# Altium integrated library ECT-CV2018D.IntLib: 35 symbols
Pins are listed as number, name and electrical type; pins without a type are passive.

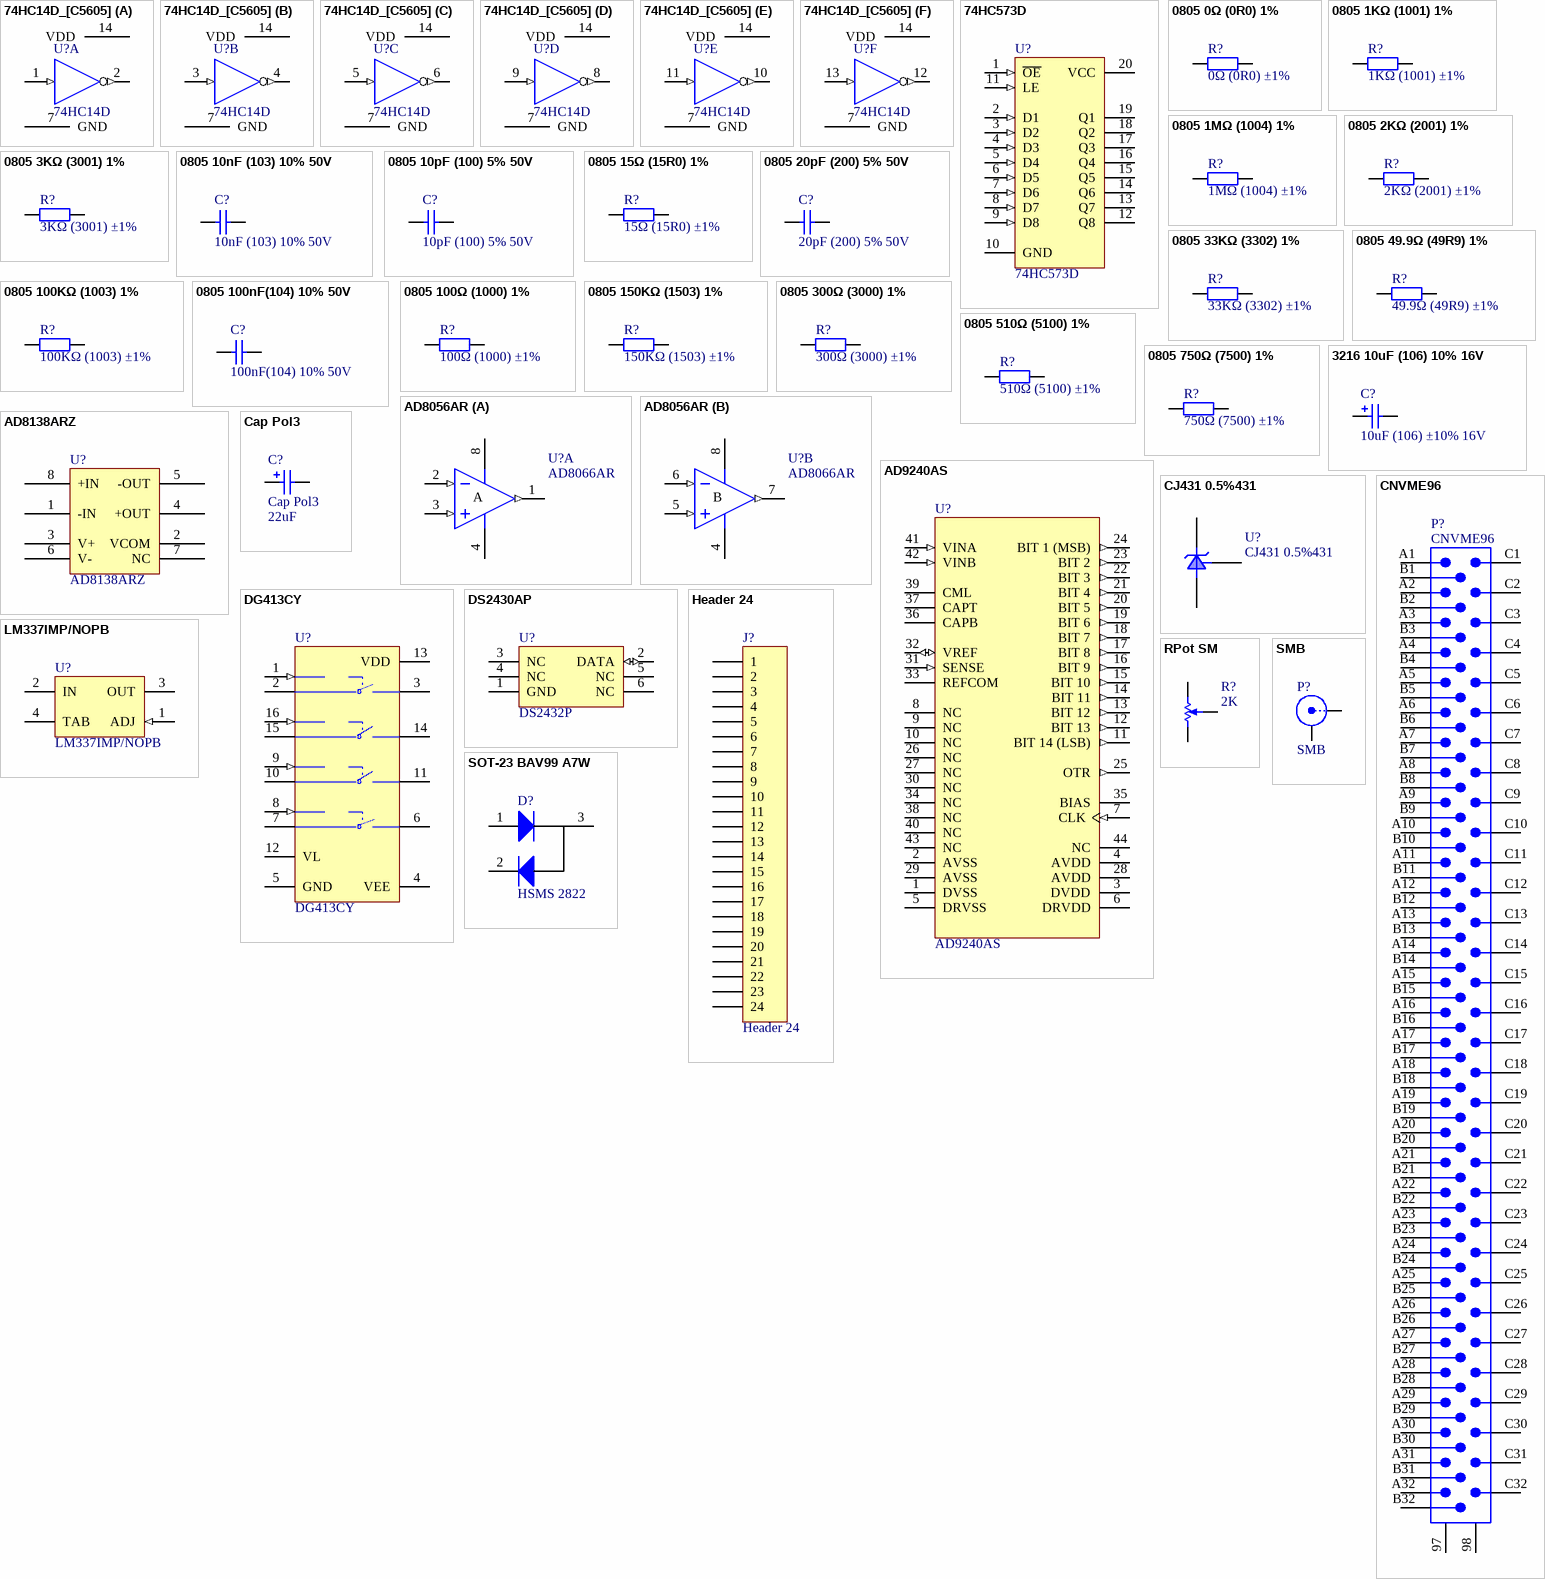
[diagram p0: symbols 74HC14D_[C5605] to SOT-23 BAV99 A7W]

## 74HC14D_[C5605]
designator U?, comment 74HC14D
74系列逻辑芯片; ComponentLink1Description: 供应商链接; ComponentLink1URL: http://www.szlcsc.com/product/details_6056.html; Package: SOIC-14_150mil; Supplier: LC; SuppliersPartNumber: C5605
footprint SOIC-14_150mil
footprint LC-SOIC-14_150mil
pins on every part: 7 GND (power) hidden, 14 VDD (power) hidden
part A pins: 1 A (in), 2 Y (out)
part B pins: 3 A (in), 4 Y (out)
part C pins: 5 A (in), 6 Y (out)
part D pins: 8 Y (out), 9 A (in)
part E pins: 10 Y (out), 11 A (in)
part F pins: 12 Y (out), 13 A (in)

## 74HC573D
designator U?
74系列逻辑芯片; ComponentLink1Description: 供应商链接; ComponentLink1URL: http://www.szlcsc.com/product/details_6059.html; Package: SOIC-20_300mil; Supplier: LC; SuppliersPartNumber: C5608
footprint LC-SOIC-20_300mil
pins: 1 ~{OE} (in), 2 D1 (in), 3 D2 (in), 4 D3 (in), 5 D4 (in), 6 D5 (in), 7 D6 (in), 8 D7 (in), 9 D8 (in), 10 GND (power), 11 LE (in), 12 Q8 (hiz), 13 Q7 (hiz), 14 Q6 (hiz), 15 Q5 (hiz), 16 Q4 (hiz), 17 Q3 (hiz), 18 Q2 (hiz), 19 Q1 (hiz), 20 VCC (power)

## 0805 0Ω (0R0) 1%
designator R?, comment 0Ω (0R0) ±1%
贴片电阻; ComponentLink1Description: 供应商链接; ComponentLink1URL: http://www.szlcsc.com/product/details_18165.html; Package: 0805; Supplier: LC; SuppliersPartNumber: C17477
footprint LC-0805_R
pins: 1, 2

## 0805 1KΩ (1001) 1%
designator R?, comment 1KΩ (1001) ±1%
贴片电阻; ComponentLink1Description: 供应商链接; ComponentLink1URL: http://www.szlcsc.com/product/details_18201.html; Package: 0805; Supplier: LC; SuppliersPartNumber: C17513
footprint LC-0805_R
pins: 1, 2

## 0805 1MΩ (1004) 1%
designator R?, comment 1MΩ (1004) ±1%
贴片电阻; ComponentLink1Description: 供应商链接; ComponentLink1URL: http://www.szlcsc.com/product/details_18202.html; Package: 0805; Supplier: LC; SuppliersPartNumber: C17514
footprint LC-0805_R
pins: 1, 2

## 0805 2KΩ (2001) 1%
designator R?, comment 2KΩ (2001) ±1%
贴片电阻; ComponentLink1Description: 供应商链接; ComponentLink1URL: http://www.szlcsc.com/product/details_18292.html; Package: 0805; Supplier: LC; SuppliersPartNumber: C17604
footprint LC-0805_R
pins: 1, 2

## 0805 3KΩ (3001) 1%
designator R?, comment 3KΩ (3001) ±1%
贴片电阻; ComponentLink1Description: 供应商链接; ComponentLink1URL: http://www.szlcsc.com/product/details_18349.html; Package: 0805; Supplier: LC; SuppliersPartNumber: C17661
footprint LC-0805_R
pins: 1, 2

## 0805 10nF (103) 10% 50V
designator C?, comment 10nF (103) 10% 50V
贴片电容; ComponentLink1Description: 供应商链接; ComponentLink1URL: http://www.szlcsc.com/product/details_2062.html; Package: 0805; Supplier: LC; SuppliersPartNumber: C1710
footprint LC-0805_C
pins: 1, 2

## 0805 10pF (100) 5% 50V
designator C?, comment 10pF (100) 5% 50V
贴片电容; ComponentLink1Description: 供应商链接; ComponentLink1URL: http://www.szlcsc.com/product/details_2137.html; Package: 0805; Supplier: LC; SuppliersPartNumber: C1785
footprint LC-0805_C
pins: 1, 2

## 0805 15Ω (15R0) 1%
designator R?, comment 15Ω (15R0) ±1%
贴片电阻; ComponentLink1Description: 供应商链接; ComponentLink1URL: http://www.szlcsc.com/product/details_18168.html; Package: 0805; Supplier: LC; SuppliersPartNumber: C17480
footprint LC-0805_R
pins: 1, 2

## 0805 20pF (200) 5% 50V
designator C?, comment 20pF (200) 5% 50V
贴片电容; ComponentLink1Description: 供应商链接; ComponentLink1URL: http://www.szlcsc.com/product/details_2150.html; Package: 0805; Supplier: LC; SuppliersPartNumber: C1798
footprint LC-0805_C
pins: 1, 2

## 0805 33KΩ (3302) 1%
designator R?, comment 33KΩ (3302) ±1%
贴片电阻; ComponentLink1Description: 供应商链接; ComponentLink1URL: http://www.szlcsc.com/product/details_18321.html; Package: 0805; Supplier: LC; SuppliersPartNumber: C17633
footprint LC-0805_R
pins: 1, 2

## 0805 49.9Ω (49R9) 1%
designator R?, comment 49.9Ω (49R9) ±1%
贴片电阻; ComponentLink1Description: 供应商链接; ComponentLink1URL: http://www.szlcsc.com/product/details_18408.html; Package: 0805; Supplier: LC; SuppliersPartNumber: C17720
footprint LC-0805_R
pins: 1, 2

## 0805 100KΩ (1003) 1%
designator R?, comment 100KΩ (1003) ±1%
贴片电阻; ComponentLink1Description: 供应商链接; ComponentLink1URL: http://www.szlcsc.com/product/details_18095.html; Package: 0805; Supplier: LC; SuppliersPartNumber: C17407
footprint LC-0805_R
pins: 1, 2

## 0805 100nF(104) 10% 50V
designator C?, comment 100nF(104) 10% 50V
贴片电容; ComponentLink1Description: 供应商链接; ComponentLink1URL: http://www.szlcsc.com/product/details_50686.html; Package: 0805; Supplier: LC; SuppliersPartNumber: C49678
footprint LC-0805_C
pins: 1, 2

## 0805 100Ω (1000) 1%
designator R?, comment 100Ω (1000) ±1%
贴片电阻; ComponentLink1Description: 供应商链接; ComponentLink1URL: http://www.szlcsc.com/product/details_18096.html; Package: 0805; Supplier: LC; SuppliersPartNumber: C17408
footprint LC-0805_R
pins: 1, 2

## 0805 150KΩ (1503) 1%
designator R?, comment 150KΩ (1503) ±1%
贴片电阻; ComponentLink1Description: 供应商链接; ComponentLink1URL: http://www.szlcsc.com/product/details_18158.html; Package: 0805; Supplier: LC; SuppliersPartNumber: C17470
footprint LC-0805_R
pins: 1, 2

## 0805 300Ω (3000) 1%
designator R?, comment 300Ω (3000) ±1%
贴片电阻; ComponentLink1Description: 供应商链接; ComponentLink1URL: http://www.szlcsc.com/product/details_18305.html; Package: 0805; Supplier: LC; SuppliersPartNumber: C17617
footprint LC-0805_R
pins: 1, 2

## 0805 510Ω (5100) 1%
designator R?, comment 510Ω (5100) ±1%
贴片电阻; ComponentLink1Description: 供应商链接; ComponentLink1URL: http://www.szlcsc.com/product/details_18422.html; Package: 0805; Supplier: LC; SuppliersPartNumber: C17734
footprint LC-0805_R
pins: 1, 2

## 0805 750Ω (7500) 1%
designator R?, comment 750Ω (7500) ±1%
贴片电阻; ComponentLink1Description: 供应商链接; ComponentLink1URL: http://www.szlcsc.com/product/details_18506.html; Package: 0805; Supplier: LC; SuppliersPartNumber: C17818
footprint LC-0805_R
pins: 1, 2

## 3216 10uF (106) 10% 16V
designator C?, comment 10uF (106) ±10% 16V
钽电容; ComponentLink1Description: 供应商链接; ComponentLink1URL: http://www.szlcsc.com/product/details_7643.html; Package: 3216; Supplier: LC; SuppliersPartNumber: C7171
footprint LC-CASE-A_3216
pins: 1, 2

## AD8056AR
designator U?, comment AD8066AR
Low Cost, 300MHz Voltage Feedback Amplifier; Published: 8-Jun-2000; LatestRevisionDate: 13-Apr-2006; LatestRevisionNote: IPC-7351 Footprint Added.; DatasheetVersion: REV. 0 1997; PackageVersion: revA; PackageReference: SO-8; Publisher: Altium Limited; PackageDescription: 8-Pin Small Outline Integrated Circuit 1.27 mm Pitch; Code_JEDEC: MS-012-AA; Code_IPC: SOIC127P600-8; ComponentLink1Description: Manufacturer Link; ComponentLink1URL: http://www.analog.com/en/prod/0,,759_786_AD8055%2C00.html; ComponentLink2Description: Datasheet; ComponentLink2URL: http://www.analog.com/UploadedFiles/Data_Sheets/40402558757264AD8055_6_i.pdf
footprint SO-8_N (SOIC, 8-Leads, Body 4.9x3.9mm, Pitch 1.27mm, IPC Medium Density)
footprint SO-8_L (SOIC, 8-Leads, Body 4.9x3.9mm, Pitch 1.27mm, IPC High Density)
footprint SO-8_M (SOIC, 8-Leads, Body 4.9x3.9mm, Pitch 1.27mm, IPC Low Density)
3D model SO-8 (8-Pin Small Outline Integrated Circuit 1.27 mm Pitch)
pins on every part: 4 V- (power), 8 V+ (power)
part A pins: 1 OUT (out), 2 IN- (in), 3 IN+ (in)
part B pins: 5 IN+ (in), 6 IN- (in), 7 OUT (out)
part A text: A
part B text: B

## AD8138ARZ
designator U?
footprint SO-8_N (SOIC, 8-Leads, Body 4.9x3.9mm, Pitch 1.27mm, IPC Medium Density)
pins: 1 -IN, 2 VCOM, 3 V+, 4 +OUT, 5 -OUT, 6 V-, 7 NC, 8 +IN

## AD9240AS
designator U?
Complete 14-Bit, 10 MSPS Monolithic A/D Converter, 44-Pin MQFP, Industrial; Published: 26-May-2004; LatestRevisionDate: 13-Apr-2006; LatestRevisionNote: IPC-7351 Footprint Added.; DatasheetVersion: Rev. A; PackageVersion: Rev. A; PackageReference: S-44-MQFP; Publisher: Altium Limited; PackageDescription: 44-Pin Metric Quad Flat Pack 0.8 mm Pitch; Code_IPC: QFP80P1320X1320-44; ComponentLink1Description: Manufacturer Link; ComponentLink1URL: http://www.analog.com/en/prod/0%2C2877%2CAD9240%2C00.html; ComponentLink2Description: Datasheet; ComponentLink2URL: http://www.analog.com/UploadedFiles/Data_Sheets/417954540AD9240_a.pdf
footprint S-44-MQFP_N (QFP, 44-Leads, Body 10x10mm, Pitch 0.8mm, IPC Medium Density)
footprint S-44-MQFP_L (QFP, 44-Leads, Body 10x10mm, Pitch 0.8mm, IPC High Density)
footprint S-44-MQFP_M (QFP, 44-Leads, Body 10x10mm, Pitch 0.8mm, IPC Low Density)
3D model 9240A-S-44-MQFP (44-Pin Metric Quad Flat Pack 0.8 mm Pitch)
pins: 1 DVSS (power), 2 AVSS (power), 3 DVDD (power), 4 AVDD (power), 5 DRVSS (power), 6 DRVDD (power), 7 CLK (in), 8 NC, 9 NC, 10 NC, 11 BIT 14 (LSB) (out), 12 BIT 13 (out), 13 BIT 12 (out), 14 BIT 11 (out), 15 BIT 10 (out), 16 BIT 9 (out), 17 BIT 8 (out), 18 BIT 7 (out), 19 BIT 6 (out), 20 BIT 5 (out), 21 BIT 4 (out), 22 BIT 3 (out), 23 BIT 2 (out), 24 BIT 1 (MSB) (out), 25 OTR (out), 26 NC, 27 NC, 28 AVDD (power), 29 AVSS (power), 30 NC, 31 SENSE (in), 32 VREF (io), 33 REFCOM (power), 34 NC, 35 BIAS, 36 CAPB, 37 CAPT, 38 NC, 39 CML (power), 40 NC, 41 VINA (in), 42 VINB (in), 43 NC, 44 NC

## Cap Pol3
designator C?  value 22uF
Polarized Capacitor (Surface Mount); Published: 8-Jun-2000; LatestRevisionDate: 29-May-2009; LatestRevisionNote: IPC-7351 Footprint Added.; PackageReference: C0805; Publisher: Altium Limited; PackageDescription: Chip Capacitor
footprint C0805 (Chip Capacitor, Body 2.0x1.3mm, IPC High Density)
footprint 1812 (Chip Capacitor, Body 4.5x3.2mm, IPC High Density)
footprint 1825 (Chip Capacitor, Body 4.5x6.4mm, IPC High Density)
footprint C2225 (Chip Capacitor, Body 5.7x6.4mm, IPC High Density)
footprint 2220 (Chip Capacitor, Body 5.7x5.0mm, IPC High Density)
simulation model CAP (Capacitor)
signal-integrity model Cap Pol
pins: 1, 2
1 alternate drawing of the same symbol

## CJ431 0.5%431
designator U?
电压基准; ComponentLink1Description: 供应商链接; ComponentLink1URL: http://www.szlcsc.com/product/details_3500.html; Package: SOT-23; Supplier: LC; SuppliersPartNumber: C3113
footprint LC-SOT-23(SOT-23-3)
pins: 1 R, 2 K, 3 A

## CNVME96
designator P?
96-Pin Connector (3x32 2.54mm grid); Text Field6: Alternate Layout Available; Text Field7: Published 14-Feb-2002
footprint CNVME96
pins: 97, 98, A1, A2, A3, A4, A5, A6, A7, A8, A9, A10, A11, A12, A13, A14, A15, A16, A17, A18, A19, A20, A21, A22, A23, A24, A25, A26, A27, A28, A29, A30, A31, A32, B1, B2, B3, B4, B5, B6, B7, B8, B9, B10, B11, B12, B13, B14, B15, B16, B17, B18, B19, B20, B21, B22, B23, B24, B25, B26, B27, B28, B29, B30, B31, B32, C1, C2, C3, C4, C5, C6, C7, C8, C9, C10, C11, C12, C13, C14, C15, C16, C17, C18, C19, C20, C21, C22, C23, C24, C25, C26, C27, C28, C29, C30, C31, C32
1 alternate drawing of the same symbol

## DG413CY
designator U?
Improved, Quad, SPST Analog Switches; Published: 16-Jan-2001; LatestRevisionDate: 13-Apr-2006; LatestRevisionNote: IPC-7351 Footprint Added.; DatasheetVersion: Aug-1995; PackageReference: NSO16; Publisher: Altium Limited; PackageDescription: 16-Pin Small Outline Integrated Circuit 1.27 mm Pitch; Code_JEDEC: MS-012-AC; Code_IPC: SOIC127P600-16; ComponentLink1Description: Manufacturer Link; ComponentLink1URL: http://www.maxim-ic.com/; ComponentLink2Description: Datasheet; ComponentLink2URL: http://pdfserv.maxim-ic.com/en/ds/DG411-DG413.pdf
footprint NSO16_N (SOIC, 16-Leads, Body 9.9x3.9mm, Pitch 1.27mm, IPC Medium Density)
footprint NSO16_L (SOIC, 16-Leads, Body 9.9x3.9mm, Pitch 1.27mm, IPC High Density)
footprint NSO16_M (SOIC, 16-Leads, Body 9.9x3.9mm, Pitch 1.27mm, IPC Low Density)
3D model NSO16 (16-Pin Small Outline Integrated Circuit 1.27 mm Pitch)
pins: 1 IN1 (in), 2 D1, 3 S1, 4 VEE (power), 5 GND (power), 6 S4, 7 D4, 8 IN 4 (in), 9 IN3 (in), 10 D3, 11 S3, 12 VL (power), 13 VDD (power), 14 S2, 15 D2, 16 IN2 (in)

## DS2430AP
designator U?, comment DS2432P
256-Bit 1-Wire EEPROM; Note: Pin numbers 3-6 are Not Connected (NC); Published: 13-Oct-2000; LatestRevisionDate: 17-Jul-2002; LatestRevisionNote: Re-released for DXP Platform.; DatasheetVersion: 21-Oct-1999; PackageVersion: 1999; PackageReference: TSOC6; Publisher: Altium Limited; PackageDescription: Small Outline; 6 C-Bend Leads; Body Width 3.8 mm; Pitch 1.27 mm; ComponentLink1Description: Manufacturer Link; ComponentLink1URL: http://www.maxim-ic.com/; ComponentLink2Description: Datasheet; ComponentLink2URL: http://pdfserv.maxim-ic.com/en/ds/DS2430A.pdf
footprint TSOC6 (Small Outline; 6 C-Bend Leads; Body Width 3.8 mm; Pitch 1.27 mm)
pins: 1 GND (power), 2 DATA (io), 3 NC, 4 NC, 5 NC, 6 NC

## Header 24
designator J?
Header, 24-Pin; LatestRevisionDate: 17-Jul-2002; LatestRevisionNote: Re-released for DXP Platform.; Publisher: Altium Limited
footprint HDR1X24 (Connector; Header; 24 Position)
signal-integrity model Connector
pins: 1, 2, 3, 4, 5, 6, 7, 8, 9, 10, 11, 12, 13, 14, 15, 16, 17, 18, 19, 20, 21, 22, 23, 24

## LM337IMP/NOPB
designator U?
3-Terminal Adjustable Negative Regulator, 4-pin SOT-223, Pb-Free; Manufacturer: National Semiconductor; PackageTopMarking: XYTT*N02A; PowerWise: N; CompType: LDO IC; Published: 1-Mar-2010; DatasheetVersion: Nov-2004; PackageVersion: revB, Apr-2003; PackageReference: MP04A; Publisher: Altium Limited; PackageDescription: Molded SOT-223, 6.50 x 3.56 x 1.6mm Body, 4 Lead, 2.3mm Pitch; Supplier 1: Digi-Key; Supplier Part Number 1: LM337IMPTR-ND; Supplier 2: Digi-Key; Supplier Part Number 2: LM337IMPCT-ND; Supplier 3: Digi-Key; Supplier Part Number 3: LM337IMPDKR-ND; Supplier 4: Newark; Supplier Part Number 4: 41K4742; PartNumber: LM337IMP/NOPB; RoHS: Y; PinCount: 4; Code_JEDEC: TO-261-AA; Code_IPC: SOT223-4; ComponentLink1Description: LM337 Datasheet; ComponentLink1URL: http://www.national.com/ds/LM/LM337.pdf; ComponentLink2Description: LM337 Web Page; ComponentLink2URL: http://www.national.com/pf/LM/LM337.html; ComponentLink3Description: MP04A Package Page; ComponentLink3URL: http://www.national.com/packaging/folders/mp04a.html
footprint MP04A_N (SOT223, 4-Leads, Body 6.5x3.5mm, Pitch 2.3mm, Lead Span 7mm, IPC Medium Density)
footprint MP04A_L (SOT223, 4-Leads, Body 6.5x3.5mm, Pitch 2.3mm, Lead Span 7mm, IPC High Density)
footprint MP04A_M (SOT223, 4-Leads, Body 6.5x3.5mm, Pitch 2.3mm, Lead Span 7mm, IPC Low Density)
pins: 1 ADJ (in), 2 IN (power), 3 OUT (power), 4 TAB (power)

## RPot SM
designator R?, comment 2K
Square Trimming Potentiometer; Published: 17-Dec-2003; DatasheetVersion: Oct-2003; PackageReference: POT4MM-2; Publisher: Altium Limited; PackageDescription: Square Trimming Potentiometer; ComponentLink1Description: Manufacturer Link; ComponentLink1URL: http://bourns.com/2/search.html
footprint POT4MM-2 (Square Trimming Potentiometer)
pins: CCW -, CW +, W
1 alternate drawing of the same symbol

## SMB
designator P?
SMB Straight Connector; LatestRevisionDate: 17-Jul-2002; LatestRevisionNote: Re-released for DXP Platform.; Publisher: Altium Limited
footprint SMB_V-RJ45 (Connector; SMB Straight)
signal-integrity model Connector
pins: 1 X, 2 Y

## SOT-23 BAV99 A7W
designator D?, comment HSMS 2822
开关二极管; ComponentLink1Description: 供应商链接; ComponentLink1URL: http://www.szlcsc.com/product/details_2877.html; Package: SOT-23; Supplier: LC; SuppliersPartNumber: C2500
footprint LC-SOT-23(SOT-23-3)
pins: 1 A, 2 A, 3 K

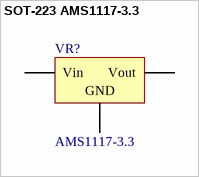
[diagram p1: symbol SOT-223 AMS1117-3.3]

## SOT-223 AMS1117-3.3
designator VR?, comment AMS1117-3.3
低压差线性稳压(LDO); ComponentLink1Description: 供应商链接; ComponentLink1URL: http://www.szlcsc.com/product/details_6652.html; Package: SOT-223; Supplier: LC; SuppliersPartNumber: C6186
footprint LC-SOT-223
pins: 1 GND, 2 Vout, 3 Vin